# Altium schematic symbol library NCP114.SchLib: 1 symbol
Pins are listed as number, name and electrical type; pins without a type are passive.

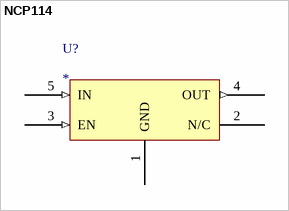
[diagram p0: symbol NCP114]

## NCP114
designator U?
300 mA LDO that provides the engineer with a very / stable, accurate voltage with low noise suitable for space constrained, noise sensitive applications. In order to optimize performance for battery operated portable applications, the NCP114 employs the dynamic quiescent current adjustment for very low IQ consumption at no−load.
footprint SOT95P295X110-5NW (SOT23, 5-Leads, Body 3.00x2.95mm, Pitch 0.95mm, IPC Medium Density)
pins: 1 GND (power), 2 N/C, 3 EN (in), 4 OUT (out), 5 IN (in)